# Altium footprint library CONN_TBLOCK_2P54.PcbLib: 38 footprints (part 1 of 3)
Each footprint in its own frame and in the unit in brackets; x right, y up, seen from the top. Pads: shape width x height; smd on the part's side, far side on the other; paste and mask are expansions set on the pad; w line width, h text height; cw(c..) or ccw(c..) is an arc to the next point about the centre after c.
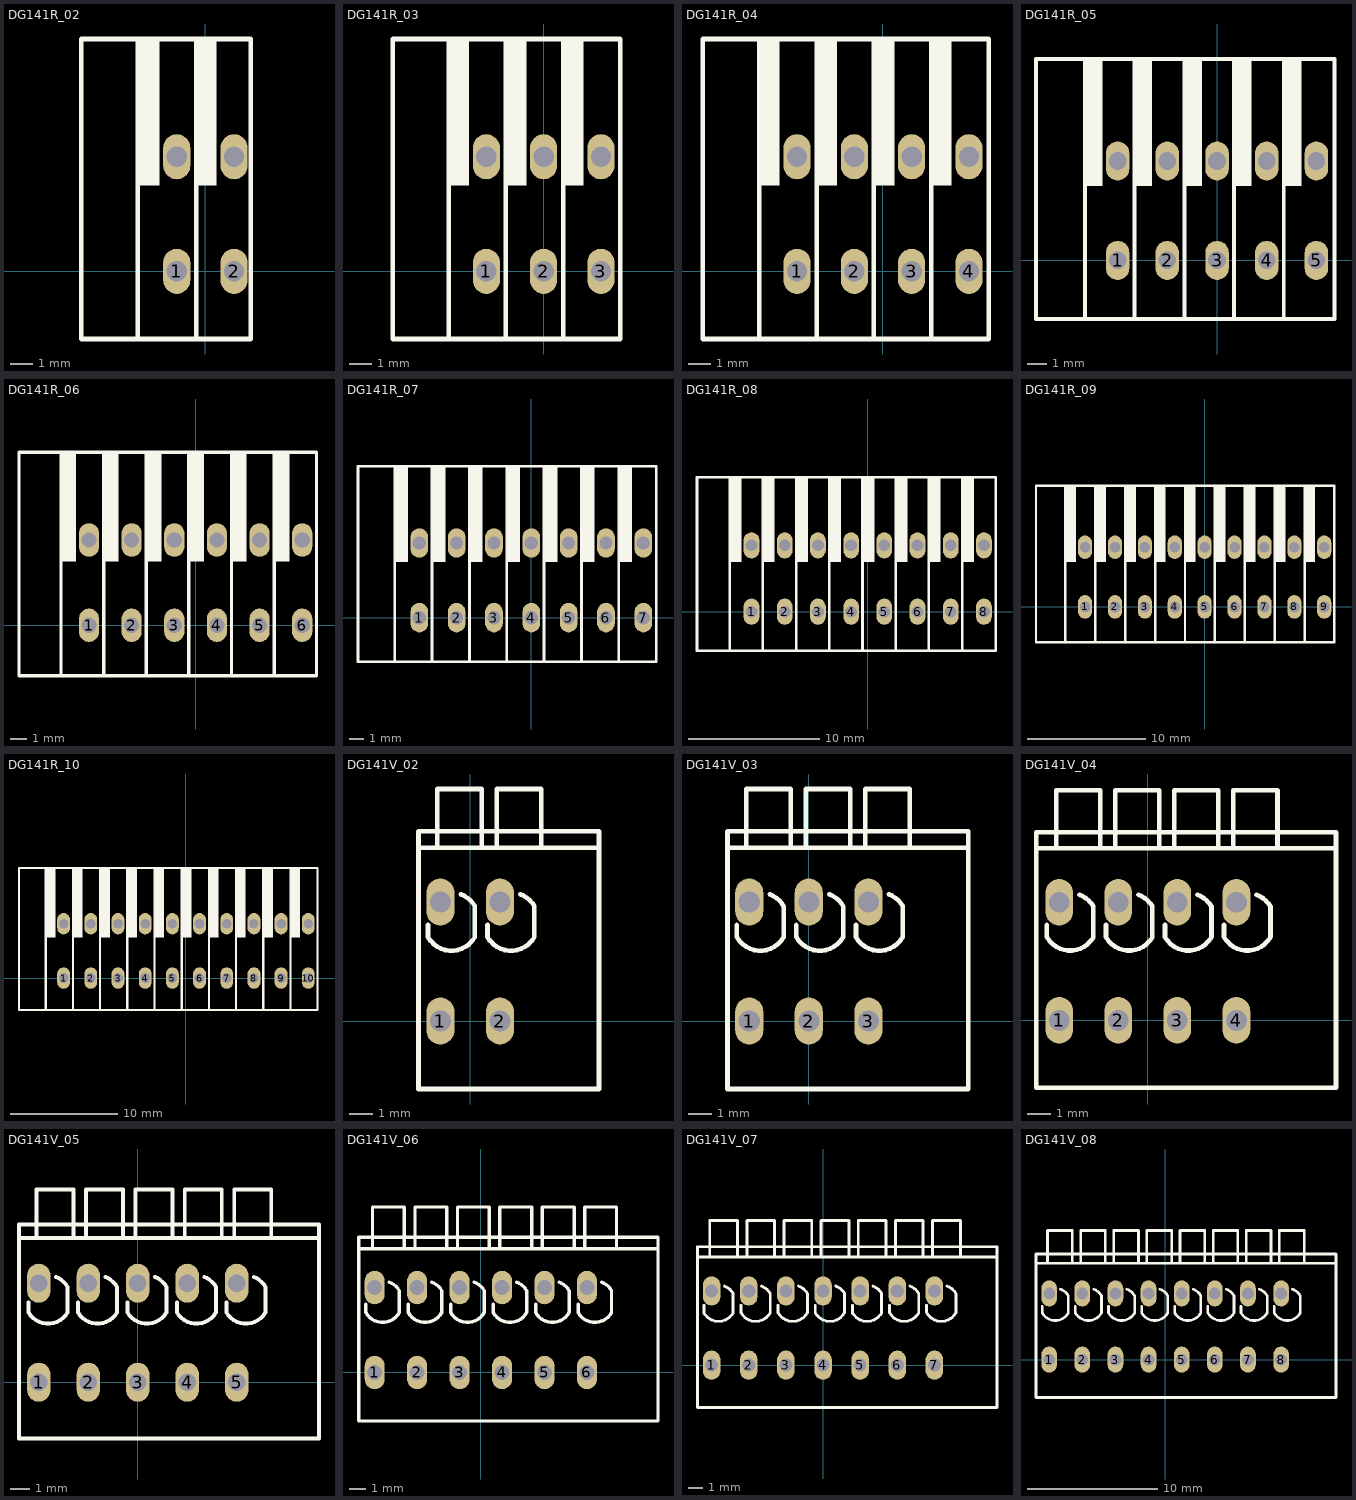
[diagram p0: the footprints below, top view; thin cyan lines are the x and y axes]

## DG141R_02 [mm] "Terminal Block Spring, Pitch 2.54mm, Green"
height 13
pads (4):
  oval 1.2x2 hole 0.9: 1(-1.27,0) 2(1.27,0) ""(-1.27,5.08) ""(1.27,5.08)
Top Overlay:
  region: 0.5,10.3 -0.4,10.3 -0.4,3.8 0.5,3.8
  region: -2.04,10.3 -2.94,10.3 -2.94,3.8 -2.04,3.8
  lines w0.2: -3,-3 -3,10.3 ; -0.4,-3 -0.4,10.3 ; -5.5,-3 -5.5,10.3 2,10.3 2,-3 -5.5,-3
3D body "DG141R-2-2.54.step": height 12.7, standoff -3.4, extent -5.438,-3.015 2.082,10.585

## DG141R_03 [mm] "Terminal Block Spring, Pitch 2.54mm, Green"
height 13
pads (6):
  oval 1.2x2 hole 0.9: 1(-2.54,0) 2(0,0) 3(2.54,0) ""(-2.54,5.08) ""(0,5.08) ""(2.54,5.08)
Top Overlay:
  region: 1.77,10.3 0.87,10.3 0.87,3.8 1.77,3.8
  region: -0.77,10.3 -1.67,10.3 -1.67,3.8 -0.77,3.8
  region: -3.31,10.3 -4.21,10.3 -4.21,3.8 -3.31,3.8
  lines w0.2: -4.21,-3 -4.21,10.3 ; -1.67,-3 -1.67,10.3 ; 0.87,-3 0.87,10.3 ; -6.7,-3 -6.7,10.3 3.4,10.3 3.4,-3 -6.7,-3
3D body "DG141R-3-2.54.step": height 12.7, standoff -3.4, extent -6.708,-3.048 3.352,10.552

## DG141R_04 [mm] "Terminal Block Spring, Pitch 2.54mm, Green"
height 13
pads (8):
  oval 1.2x2 hole 0.9: 1(-3.81,0) 2(-1.27,0) 3(1.27,0) 4(3.81,0) ""(-3.81,5.08) ""(-1.27,5.08) ""(1.27,5.08) ""(3.81,5.08)
Top Overlay:
  region: 3.04,10.3 2.14,10.3 2.14,3.8 3.04,3.8
  region: 0.5,10.3 -0.4,10.3 -0.4,3.8 0.5,3.8
  region: -2.04,10.3 -2.94,10.3 -2.94,3.8 -2.04,3.8
  region: -4.58,10.3 -5.48,10.3 -5.48,3.8 -4.58,3.8
  lines w0.2: -5.48,-3 -5.48,10.3 ; -2.94,-3 -2.94,10.3 ; -0.4,-3 -0.4,10.3 ; 2.14,-3 2.14,10.3 ; -8,-3 -8,10.3 4.7,10.3 4.7,-3 -8,-3
3D body "DG141R-4-2.54.step": height 12.7, standoff -3.4, extent -8.003,-3.023 4.597,10.577

## DG141R_05 [mm] "Terminal Block Spring, Pitch 2.54mm, Green"
height 13
pads (10):
  oval 1.2x2 hole 0.9: 1(-5.08,0) 2(-2.54,0) 3(0,0) 4(2.54,0) 5(5.08,0) ""(-5.08,5.08) ""(-2.54,5.08) ""(0,5.08) ""(2.54,5.08) ""(5.08,5.08)
Top Overlay:
  region: 4.31,10.3 3.41,10.3 3.41,3.8 4.31,3.8
  region: 1.77,10.3 0.87,10.3 0.87,3.8 1.77,3.8
  region: -0.77,10.3 -1.67,10.3 -1.67,3.8 -0.77,3.8
  region: -3.31,10.3 -4.21,10.3 -4.21,3.8 -3.31,3.8
  region: -5.85,10.3 -6.75,10.3 -6.75,3.8 -5.85,3.8
  lines w0.2: -6.75,-3 -6.75,10.3 ; -4.21,-3 -4.21,10.3 ; -1.67,-3 -1.67,10.3 ; 0.87,-3 0.87,10.3 ; 3.41,-3 3.41,10.3 ; -9.25,-3 -9.25,10.3 6,10.3 6,-3 -9.25,-3
3D body "DG141R-5-2.54.step": height 12.7, standoff -3.4, extent -9.248,-3.048 5.892,10.552

## DG141R_06 [mm] "Terminal Block Spring, Pitch 2.54mm, Green"
height 13
pads (12):
  oval 1.2x2 hole 0.9: 1(-6.35,0) 2(-3.81,0) 3(-1.27,0) 4(1.27,0) 5(3.81,0) 6(6.35,0) ""(-6.35,5.08) ""(-3.81,5.08) ""(-1.27,5.08) ""(1.27,5.08) ""(3.81,5.08) ""(6.35,5.08)
Top Overlay:
  region: -7.12,10.3 -8.02,10.3 -8.02,3.8 -7.12,3.8
  region: -4.58,10.3 -5.48,10.3 -5.48,3.8 -4.58,3.8
  region: -2.04,10.3 -2.94,10.3 -2.94,3.8 -2.04,3.8
  region: 0.5,10.3 -0.4,10.3 -0.4,3.8 0.5,3.8
  region: 3.04,10.3 2.14,10.3 2.14,3.8 3.04,3.8
  region: 5.58,10.3 4.68,10.3 4.68,3.8 5.58,3.8
  lines w0.2: -8.02,-3 -8.02,10.3 ; -5.48,-3 -5.48,10.3 ; -2.94,-3 -2.94,10.3 ; -0.4,-3 -0.4,10.3 ; 2.14,-3 2.14,10.3 ; 4.68,-3 4.68,10.3 ; -10.52,-3 7.2,-3 7.2,10.3 -10.52,10.3 -10.52,-3
3D body "DG141R-6-2.54.step": height 12.7, standoff -3.4, extent -10.543,-3.048 7.237,10.552

## DG141R_07 [mm] "Terminal Block Spring, Pitch 2.54mm, Green"
height 13
pads (14):
  oval 1.2x2 hole 0.9: 1(-7.62,0) 2(-5.08,0) 3(-2.54,0) 4(0,0) 5(2.54,0) 6(5.08,0) 7(7.62,0) ""(-7.62,5.08) ""(-5.08,5.08) ""(-2.54,5.08) ""(0,5.08) ""(2.54,5.08) ""(5.08,5.08) ""(7.62,5.08)
Top Overlay:
  region: -8.39,10.3 -9.29,10.3 -9.29,3.8 -8.39,3.8
  region: -5.85,10.3 -6.75,10.3 -6.75,3.8 -5.85,3.8
  region: -3.31,10.3 -4.21,10.3 -4.21,3.8 -3.31,3.8
  region: -0.77,10.3 -1.67,10.3 -1.67,3.8 -0.77,3.8
  region: 1.77,10.3 0.87,10.3 0.87,3.8 1.77,3.8
  region: 4.31,10.3 3.41,10.3 3.41,3.8 4.31,3.8
  region: 6.85,10.3 5.95,10.3 5.95,3.8 6.85,3.8
  lines w0.2: -9.29,-3 -9.29,10.3 ; -6.75,-3 -6.75,10.3 ; -4.21,-3 -4.21,10.3 ; -1.67,-3 -1.67,10.3 ; 0.87,-3 0.87,10.3 ; 3.41,-3 3.41,10.3 ; 5.95,-3 5.95,10.3 ; -11.79,-3 8.5,-3 8.5,10.3 -11.79,10.3 -11.79,-3
3D body "DG141R-7-2.54.step": height 12.7, standoff -3.4, extent -11.888,-3.021 8.532,10.579

## DG141R_08 [mm] "Terminal Block Spring, Pitch 2.54mm, Green"
height 13
pads (16):
  oval 1.2x2 hole 0.9: 1(-8.89,0) 2(-6.35,0) 3(-3.81,0) 4(-1.27,0) 5(1.27,0) 6(3.81,0) 7(6.35,0) 8(8.89,0) ""(-8.89,5.08) ""(-6.35,5.08) ""(-3.81,5.08) ""(-1.27,5.08) ""(1.27,5.08) ""(3.81,5.08) ""(6.35,5.08) ""(8.89,5.08)
Top Overlay:
  region: -9.66,10.3 -10.56,10.3 -10.56,3.8 -9.66,3.8
  region: -7.12,10.3 -8.02,10.3 -8.02,3.8 -7.12,3.8
  region: -4.58,10.3 -5.48,10.3 -5.48,3.8 -4.58,3.8
  region: -2.04,10.3 -2.94,10.3 -2.94,3.8 -2.04,3.8
  region: 0.5,10.3 -0.4,10.3 -0.4,3.8 0.5,3.8
  region: 3.04,10.3 2.14,10.3 2.14,3.8 3.04,3.8
  region: 5.58,10.3 4.68,10.3 4.68,3.8 5.58,3.8
  region: 8.12,10.3 7.22,10.3 7.22,3.8 8.12,3.8
  lines w0.2: -10.56,-3 -10.56,10.3 ; -8.02,-3 -8.02,10.3 ; -5.48,-3 -5.48,10.3 ; -2.94,-3 -2.94,10.3 ; -0.4,-3 -0.4,10.3 ; 2.14,-3 2.14,10.3 ; 4.68,-3 4.68,10.3 ; 7.22,-3 7.22,10.3 ; -13.06,-3 9.8,-3 9.8,10.3 -13.06,10.3 -13.06,-3
3D body "DG141R-8-2.54.step": height 12.7, standoff -3.4, extent -13.183,-3.048 9.777,10.552

## DG141R_09 [mm] "Terminal Block Spring, Pitch 2.54mm, Green"
height 13
pads (18):
  oval 1.2x2 hole 0.9: 1(-10.16,0) 2(-7.62,0) 3(-5.08,0) 4(-2.54,0) 5(0,0) 6(2.54,0) 7(5.08,0) 8(7.62,0) 9(10.16,0) ""(-10.16,5.08) ""(-7.62,5.08) ""(-5.08,5.08) ""(-2.54,5.08) ""(0,5.08) ""(2.54,5.08) ""(5.08,5.08) ""(7.62,5.08) ""(10.16,5.08)
Top Overlay:
  region: -10.93,10.3 -11.83,10.3 -11.83,3.8 -10.93,3.8
  region: -8.39,10.3 -9.29,10.3 -9.29,3.8 -8.39,3.8
  region: -5.85,10.3 -6.75,10.3 -6.75,3.8 -5.85,3.8
  region: -3.31,10.3 -4.21,10.3 -4.21,3.8 -3.31,3.8
  region: -0.77,10.3 -1.67,10.3 -1.67,3.8 -0.77,3.8
  region: 1.77,10.3 0.87,10.3 0.87,3.8 1.77,3.8
  region: 4.31,10.3 3.41,10.3 3.41,3.8 4.31,3.8
  region: 6.85,10.3 5.95,10.3 5.95,3.8 6.85,3.8
  region: 9.39,10.3 8.49,10.3 8.49,3.8 9.39,3.8
  lines w0.2: -11.83,-3 -11.83,10.3 ; -9.29,-3 -9.29,10.3 ; -6.75,-3 -6.75,10.3 ; -4.21,-3 -4.21,10.3 ; -1.67,-3 -1.67,10.3 ; 0.87,-3 0.87,10.3 ; 3.41,-3 3.41,10.3 ; 5.95,-3 5.95,10.3 ; 8.49,-3 8.49,10.3 ; -14.33,-3 11,-3 11,10.3 -14.33,10.3 -14.33,-3
3D body "DG141R-9-2.54.step": height 12.7, standoff -3.4, extent -14.553,-3.023 11.047,10.577

## DG141R_10 [mm] "Terminal Block Spring, Pitch 2.54mm, Green"
height 13
pads (20):
  oval 1.2x2 hole 0.9: 1(-11.43,0) 2(-8.89,0) 3(-6.35,0) 4(-3.81,0) 5(-1.27,0) 6(1.27,0) 7(3.81,0) 8(6.35,0) 9(8.89,0) 10(11.43,0) ""(-11.43,5.08) ""(-8.89,5.08) ""(-6.35,5.08) ""(-3.81,5.08) ""(-1.27,5.08) ""(1.27,5.08) ""(3.81,5.08) ""(6.35,5.08) ""(8.89,5.08) ""(11.43,5.08)
Top Overlay:
  region: 10.66,10.3 9.76,10.3 9.76,3.8 10.66,3.8
  region: 8.12,10.3 7.22,10.3 7.22,3.8 8.12,3.8
  region: 5.58,10.3 4.68,10.3 4.68,3.8 5.58,3.8
  region: 3.04,10.3 2.14,10.3 2.14,3.8 3.04,3.8
  region: 0.5,10.3 -0.4,10.3 -0.4,3.8 0.5,3.8
  region: -2.04,10.3 -2.94,10.3 -2.94,3.8 -2.04,3.8
  region: -4.58,10.3 -5.48,10.3 -5.48,3.8 -4.58,3.8
  region: -7.12,10.3 -8.02,10.3 -8.02,3.8 -7.12,3.8
  region: -9.66,10.3 -10.56,10.3 -10.56,3.8 -9.66,3.8
  region: -12.2,10.3 -13.1,10.3 -13.1,3.8 -12.2,3.8
  lines w0.2: -13.1,-3 -13.1,10.3 ; -10.56,-3 -10.56,10.3 ; -8.02,-3 -8.02,10.3 ; -5.48,-3 -5.48,10.3 ; -2.94,-3 -2.94,10.3 ; -0.4,-3 -0.4,10.3 ; 2.14,-3 2.14,10.3 ; 4.68,-3 4.68,10.3 ; 7.22,-3 7.22,10.3 ; 9.76,-3 9.76,10.3 ; -15.6,-3 -15.6,10.3 12.3,10.3 12.3,-3 -15.6,-3
3D body "DG141R-10-2.54.step": height 12.7, standoff -3.4, extent -15.923,-3.023 12.317,10.577

## DG141V_02 [mm] "Terminal Block Spring, Pitch 2.54mm, Green"
height 13.6
pads (4):
  oval 1.2x2 hole 0.9: 1(-1.27,0) 2(1.27,0) ""(-1.27,5.08) ""(1.27,5.08)
Top Overlay:
  lines w0.2: -2.2,7.4 5.5,7.4 ; -1.8,3.6 -1.8,4.1 ; -1.796,3.575 ccw(c-0.8,4.15) 0.196,3.575 ; -1.4,7.4 -1.4,9.9 0.5,9.9 0.5,7.4 ; -0.398,5.404 cw(c-0.796,4.325) 0.2,4.9 0.2,3.6 ; 0.74,3.6 0.74,4.1 ; 0.744,3.575 ccw(c1.74,4.15) 2.736,3.575 ; 1.14,7.4 1.14,9.9 3.04,9.9 3.04,7.4 ; 2.142,5.404 cw(c1.744,4.325) 2.74,4.9 2.74,3.6 ; -2.2,-2.9 5.5,-2.9 5.5,8.1 -2.2,8.1 -2.2,-2.9
3D body "DG141V-2.54-02P.stp": height 4.6, standoff -12.5, extent -2.17,-2.8 5.45,9.8

## DG141V_03 [mm] "Terminal Block Spring, Pitch 2.54mm, Green"
height 13.6
pads (6):
  oval 1.2x2 hole 0.9: 1(-2.54,0) 2(0,0) 3(2.54,0) ""(-2.54,5.08) ""(0,5.08) ""(2.54,5.08)
Top Overlay:
  lines w0.2: -3.47,7.4 6.8,7.4 ; -3.07,3.6 -3.07,4.1 ; -3.066,3.575 ccw(c-2.07,4.15) -1.074,3.575 ; -2.67,7.4 -2.67,9.9 -0.77,9.9 -0.77,7.4 ; -1.668,5.404 cw(c-2.066,4.325) -1.07,4.9 -1.07,3.6 ; -0.53,3.6 -0.53,4.1 ; -0.526,3.575 ccw(c0.47,4.15) 1.466,3.575 ; -0.13,7.4 -0.13,9.9 1.77,9.9 1.77,7.4 ; 0.872,5.404 cw(c0.474,4.325) 1.47,4.9 1.47,3.6 ; 2.01,3.6 2.01,4.1 ; 2.014,3.575 ccw(c3.01,4.15) 4.006,3.575 ; 2.41,7.4 2.41,9.9 4.31,9.9 4.31,7.4 ; 3.412,5.404 cw(c3.014,4.325) 4.01,4.9 4.01,3.6 ; -3.47,-2.9 -3.47,8.1 6.8,8.1 6.8,-2.9 -3.47,-2.9
3D body "DG141V-2.54-03P.stp": height 13.6, standoff -3.5, extent -3.44,-2.8 6.72,9.8

## DG141V_04 [mm] "Terminal Block Spring, Pitch 2.54mm, Green"
height 13.6
pads (8):
  oval 1.2x2 hole 0.9: 1(-3.81,0) 2(-1.27,0) 3(1.27,0) 4(3.81,0) ""(-3.81,5.08) ""(-1.27,5.08) ""(1.27,5.08) ""(3.81,5.08)
Top Overlay:
  lines w0.2: -4.8,7.4 8.1,7.4 ; -4.34,3.6 -4.34,4.1 ; -4.336,3.575 ccw(c-3.34,4.15) -2.344,3.575 ; -3.94,7.4 -3.94,9.9 -2.04,9.9 -2.04,7.4 ; -2.938,5.404 cw(c-3.336,4.325) -2.34,4.9 -2.34,3.6 ; -1.8,3.6 -1.8,4.1 ; -1.796,3.575 ccw(c-0.8,4.15) 0.196,3.575 ; -1.4,7.4 -1.4,9.9 0.5,9.9 0.5,7.4 ; -0.398,5.404 cw(c-0.796,4.325) 0.2,4.9 0.2,3.6 ; 0.74,3.6 0.74,4.1 ; 0.744,3.575 ccw(c1.74,4.15) 2.736,3.575 ; 1.14,7.4 1.14,9.9 3.04,9.9 3.04,7.4 ; 2.142,5.404 cw(c1.744,4.325) 2.74,4.9 2.74,3.6 ; 3.28,3.6 3.28,4.1 ; 3.284,3.575 ccw(c4.28,4.15) 5.276,3.575 ; 3.68,7.4 3.68,9.9 5.58,9.9 5.58,7.4 ; 4.682,5.404 cw(c4.284,4.325) 5.28,4.9 5.28,3.6 ; -4.8,-2.9 8.1,-2.9 8.1,8.1 -4.8,8.1 -4.8,-2.9
3D body "DG141V-2.54-02P.stp": height 4.6, standoff -12.5, extent -4.71,-2.8 2.91,9.8
3D body "DG141V-2.54-02P.stp": height 4.6, standoff -12.5, extent 0.37,-2.8 7.99,9.8

## DG141V_05 [mm] "Terminal Block Spring, Pitch 2.54mm, Green"
height 13.6
pads (10):
  oval 1.2x2 hole 0.9: 1(-5.08,0) 2(-2.54,0) 3(0,0) 4(2.54,0) 5(5.08,0) ""(-5.08,5.08) ""(-2.54,5.08) ""(0,5.08) ""(2.54,5.08) ""(5.08,5.08)
Top Overlay:
  lines w0.2: -6.1,7.4 9.3,7.4 ; -5.61,3.6 -5.61,4.1 ; -5.606,3.575 ccw(c-4.61,4.15) -3.614,3.575 ; -5.21,7.4 -5.21,9.9 -3.31,9.9 -3.31,7.4 ; -4.208,5.404 cw(c-4.606,4.325) -3.61,4.9 -3.61,3.6 ; -3.07,3.6 -3.07,4.1 ; -3.066,3.575 ccw(c-2.07,4.15) -1.074,3.575 ; -2.67,7.4 -2.67,9.9 -0.77,9.9 -0.77,7.4 ; -1.668,5.404 cw(c-2.066,4.325) -1.07,4.9 -1.07,3.6 ; -0.53,3.6 -0.53,4.1 ; -0.526,3.575 ccw(c0.47,4.15) 1.466,3.575 ; -0.13,7.4 -0.13,9.9 1.77,9.9 1.77,7.4 ; 0.872,5.404 cw(c0.474,4.325) 1.47,4.9 1.47,3.6 ; 2.01,3.6 2.01,4.1 ; 2.014,3.575 ccw(c3.01,4.15) 4.006,3.575 ; 2.41,7.4 2.41,9.9 4.31,9.9 4.31,7.4 ; 3.412,5.404 cw(c3.014,4.325) 4.01,4.9 4.01,3.6 ; 4.55,3.6 4.55,4.1 ; 4.554,3.575 ccw(c5.55,4.15) 6.546,3.575 ; 4.95,7.4 4.95,9.9 6.85,9.9 6.85,7.4 ; 5.952,5.404 cw(c5.554,4.325) 6.55,4.9 6.55,3.6 ; -6.1,-2.9 9.3,-2.9 9.3,8.1 -6.1,8.1 -6.1,-2.9
3D body "DG141V-2.54-02P.stp": height 13.6, standoff -3.5, extent -5.98,-2.8 1.64,9.8
3D body "DG141V-2.54-03P.stp": height 13.6, standoff -3.5, extent -0.9,-2.8 9.26,9.8

## DG141V_06 [mm] "Terminal Block Spring, Pitch 2.54mm, Green"
height 13.6
pads (12):
  oval 1.2x2 hole 0.9: 1(-6.35,0) 2(-3.81,0) 3(-1.27,0) 4(1.27,0) 5(3.81,0) 6(6.35,0) ""(-6.35,5.08) ""(-3.81,5.08) ""(-1.27,5.08) ""(1.27,5.08) ""(3.81,5.08) ""(6.35,5.08)
Top Overlay:
  lines w0.2: -7.3,7.4 10.6,7.4 ; -6.88,3.6 -6.88,4.1 ; -6.876,3.575 ccw(c-5.88,4.15) -4.884,3.575 ; -6.48,7.4 -6.48,9.9 -4.58,9.9 -4.58,7.4 ; -5.478,5.404 cw(c-5.876,4.325) -4.88,4.9 -4.88,3.6 ; -4.34,3.6 -4.34,4.1 ; -4.336,3.575 ccw(c-3.34,4.15) -2.344,3.575 ; -3.94,7.4 -3.94,9.9 -2.04,9.9 -2.04,7.4 ; -2.938,5.404 cw(c-3.336,4.325) -2.34,4.9 -2.34,3.6 ; -1.8,3.6 -1.8,4.1 ; -1.796,3.575 ccw(c-0.8,4.15) 0.196,3.575 ; -1.4,7.4 -1.4,9.9 0.5,9.9 0.5,7.4 ; -0.398,5.404 cw(c-0.796,4.325) 0.2,4.9 0.2,3.6 ; 0.74,3.6 0.74,4.1 ; 0.744,3.575 ccw(c1.74,4.15) 2.736,3.575 ; 1.14,7.4 1.14,9.9 3.04,9.9 3.04,7.4 ; 2.142,5.404 cw(c1.744,4.325) 2.74,4.9 2.74,3.6 ; 3.28,3.6 3.28,4.1 ; 3.284,3.575 ccw(c4.28,4.15) 5.276,3.575 ; 3.68,7.4 3.68,9.9 5.58,9.9 5.58,7.4 ; 4.682,5.404 cw(c4.284,4.325) 5.28,4.9 5.28,3.6 ; 5.82,3.6 5.82,4.1 ; 5.824,3.575 ccw(c6.82,4.15) 7.816,3.575 ; 6.22,7.4 6.22,9.9 8.12,9.9 8.12,7.4 ; 7.222,5.404 cw(c6.824,4.325) 7.82,4.9 7.82,3.6 ; -7.3,-2.9 -7.3,8.1 10.6,8.1 10.6,-2.9 -7.3,-2.9
3D body "DG141V-2.54-03P.stp": height 13.6, standoff -3.5, extent -7.25,-2.8 2.91,9.8
3D body "DG141V-2.54-03P.stp": height 13.6, standoff -3.5, extent 0.37,-2.8 10.53,9.8

## DG141V_07 [mm] "Terminal Block Spring, Pitch 2.54mm, Green"
height 13.6
pads (14):
  oval 1.2x2 hole 0.9: 1(-7.62,0) 2(-5.08,0) 3(-2.54,0) 4(0,0) 5(2.54,0) 6(5.08,0) 7(7.62,0) ""(-7.62,5.08) ""(-5.08,5.08) ""(-2.54,5.08) ""(0,5.08) ""(2.54,5.08) ""(5.08,5.08) ""(7.62,5.08)
Top Overlay:
  lines w0.2: -8.6,7.4 11.9,7.4 ; -8.15,3.6 -8.15,4.1 ; -8.146,3.575 ccw(c-7.15,4.15) -6.154,3.575 ; -7.75,7.4 -7.75,9.9 -5.85,9.9 -5.85,7.4 ; -6.748,5.404 cw(c-7.146,4.325) -6.15,4.9 -6.15,3.6 ; -5.61,3.6 -5.61,4.1 ; -5.606,3.575 ccw(c-4.61,4.15) -3.614,3.575 ; -5.21,7.4 -5.21,9.9 -3.31,9.9 -3.31,7.4 ; -4.208,5.404 cw(c-4.606,4.325) -3.61,4.9 -3.61,3.6 ; -3.07,3.6 -3.07,4.1 ; -3.066,3.575 ccw(c-2.07,4.15) -1.074,3.575 ; -2.67,7.4 -2.67,9.9 -0.77,9.9 -0.77,7.4 ; -1.668,5.404 cw(c-2.066,4.325) -1.07,4.9 -1.07,3.6 ; -0.53,3.6 -0.53,4.1 ; -0.526,3.575 ccw(c0.47,4.15) 1.466,3.575 ; -0.13,7.4 -0.13,9.9 1.77,9.9 1.77,7.4 ; 0.872,5.404 cw(c0.474,4.325) 1.47,4.9 1.47,3.6 ; 2.01,3.6 2.01,4.1 ; 2.014,3.575 ccw(c3.01,4.15) 4.006,3.575 ; 2.41,7.4 2.41,9.9 4.31,9.9 4.31,7.4 ; 3.412,5.404 cw(c3.014,4.325) 4.01,4.9 4.01,3.6 ; 4.55,3.6 4.55,4.1 ; 4.554,3.575 ccw(c5.55,4.15) 6.546,3.575 ; 4.95,7.4 4.95,9.9 6.85,9.9 6.85,7.4 ; 5.952,5.404 cw(c5.554,4.325) 6.55,4.9 6.55,3.6 ; 7.09,3.6 7.09,4.1 ; 7.094,3.575 ccw(c8.09,4.15) 9.086,3.575 ; 7.49,7.4 7.49,9.9 9.39,9.9 9.39,7.4 ; 8.492,5.404 cw(c8.094,4.325) 9.09,4.9 9.09,3.6 ; -8.6,-2.9 -8.6,8.1 11.9,8.1 11.9,-2.9 -8.6,-2.9
3D body "DG141V-2.54-02P.stp": height 13.6, standoff -3.5, extent 4.18,-2.8 11.8,9.8
3D body "DG141V-2.54-03P.stp": height 13.6, standoff -3.5, extent -3.44,-2.8 6.72,9.8
3D body "DG141V-2.54-02P.stp": height 13.6, standoff -3.5, extent -8.52,-2.8 -0.9,9.8

## DG141V_08 [mm] "Terminal Block Spring, Pitch 2.54mm, Green"
height 13.6
pads (16):
  oval 1.2x2 hole 0.9: 1(-8.89,0) 2(-6.35,0) 3(-3.81,0) 4(-1.27,0) 5(1.27,0) 6(3.81,0) 7(6.35,0) 8(8.89,0) ""(-8.89,5.08) ""(-6.35,5.08) ""(-3.81,5.08) ""(-1.27,5.08) ""(1.27,5.08) ""(3.81,5.08) ""(6.35,5.08) ""(8.89,5.08)
Top Overlay:
  lines w0.2: -9.9,7.4 13.1,7.4 ; -9.42,3.6 -9.42,4.1 ; -9.416,3.575 ccw(c-8.42,4.15) -7.424,3.575 ; -9.02,7.4 -9.02,9.9 -7.12,9.9 -7.12,7.4 ; -8.018,5.404 cw(c-8.416,4.325) -7.42,4.9 -7.42,3.6 ; -6.88,3.6 -6.88,4.1 ; -6.876,3.575 ccw(c-5.88,4.15) -4.884,3.575 ; -6.48,7.4 -6.48,9.9 -4.58,9.9 -4.58,7.4 ; -5.478,5.404 cw(c-5.876,4.325) -4.88,4.9 -4.88,3.6 ; -4.34,3.6 -4.34,4.1 ; -4.336,3.575 ccw(c-3.34,4.15) -2.344,3.575 ; -3.94,7.4 -3.94,9.9 -2.04,9.9 -2.04,7.4 ; -2.938,5.404 cw(c-3.336,4.325) -2.34,4.9 -2.34,3.6 ; -1.8,3.6 -1.8,4.1 ; -1.796,3.575 ccw(c-0.8,4.15) 0.196,3.575 ; -1.4,7.4 -1.4,9.9 0.5,9.9 0.5,7.4 ; -0.398,5.404 cw(c-0.796,4.325) 0.2,4.9 0.2,3.6 ; 0.74,3.6 0.74,4.1 ; 0.744,3.575 ccw(c1.74,4.15) 2.736,3.575 ; 1.14,7.4 1.14,9.9 3.04,9.9 3.04,7.4 ; 2.142,5.404 cw(c1.744,4.325) 2.74,4.9 2.74,3.6 ; 3.28,3.6 3.28,4.1 ; 3.284,3.575 ccw(c4.28,4.15) 5.276,3.575 ; 3.68,7.4 3.68,9.9 5.58,9.9 5.58,7.4 ; 4.682,5.404 cw(c4.284,4.325) 5.28,4.9 5.28,3.6 ; 5.82,3.6 5.82,4.1 ; 5.824,3.575 ccw(c6.82,4.15) 7.816,3.575 ; 6.22,7.4 6.22,9.9 8.12,9.9 8.12,7.4 ; 7.222,5.404 cw(c6.824,4.325) 7.82,4.9 7.82,3.6 ; 8.36,3.6 8.36,4.1 ; 8.364,3.575 ccw(c9.36,4.15) 10.356,3.575 ; 8.76,7.4 8.76,9.9 10.66,9.9 10.66,7.4 ; 9.762,5.404 cw(c9.364,4.325) 10.36,4.9 10.36,3.6 ; -9.9,-2.9 -9.9,8.1 13.1,8.1 13.1,-2.9 -9.9,-2.9
3D body "DG141V-2.54-03P.stp": height 13.6, standoff -3.5, extent -4.71,-2.8 5.45,9.8
3D body "DG141V-2.54-02P.stp": height 13.6, standoff -3.5, extent -9.79,-2.8 -2.17,9.8
3D body "DG141V-2.54-03P.stp": height 13.6, standoff -3.5, extent 2.91,-2.8 13.07,9.8